# Altium footprint library INF-P-TO263-15-1V.PcbLib: 1 footprints
Each footprint in its own frame and in the unit in brackets; x right, y up, seen from the top. Pads: shape width x height; smd on the part's side, far side on the other; paste and mask are expansions set on the pad; w line width, h text height; cw(c..) or ccw(c..) is an arc to the next point about the centre after c.
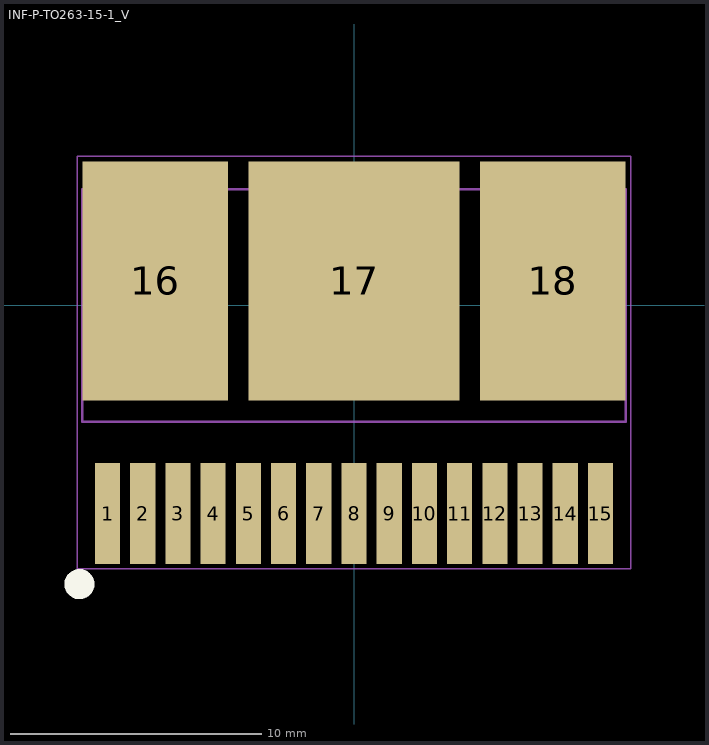
[diagram p0: the footprint, top view; thin cyan lines are the x and y axes]

## INF-P-TO263-15-1_V [mm] "TO263, 15-Leads, Body 21.6x9.25mm, Pitch 1.4mm"
height 4.4
pads (18):
  rect 1x4 smd: 1(-9.8,-8.275) 2(-8.4,-8.275) 3(-7,-8.275) 4(-5.6,-8.275) 5(-4.2,-8.275) 6(-2.8,-8.275) 7(-1.4,-8.275) 8(0,-8.275) 9(1.4,-8.275) 10(2.8,-8.275) 11(4.2,-8.275) 12(5.6,-8.275) 13(7,-8.275) 14(8.4,-8.275) 15(9.8,-8.275)
  rect 5.8x9.5 smd: 16(-7.9,0.975) 18(7.9,0.975)
  rect 8.4x9.5 smd: 17(0,0.975)
Top Overlay:
  circle w0.6: c-10.919,-11.079 r0.3
Mechanical 13:
  lines w0.1: -10.8,-4.625 -10.8,4.625 10.8,4.625 10.8,-4.625 -10.8,-4.625
Mechanical 15:
  lines w0.05: -11,-10.475 -11,5.925 11,5.925 11,-10.475 -11,-10.475
  lines w0.1: -0.5,0 0.5,0 ; 0,-0.5 0,0.5
3D body: height 4.4, standoff 0.1, extent -10.8,-4.625 10.8,4.625